# EAGLE library part LTC1983 (library spietz-library-2)
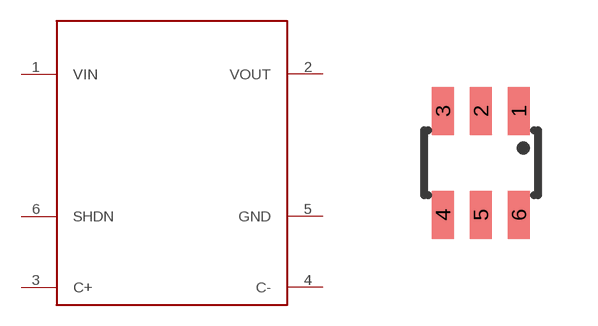
[diagram p12: symbol with the pads of SSOT23-6; footprint SSOT23-6]

Designator prefix -

## LTC1983  [SSOT23-6]
1  VIN
2  VOUT
3  C+
4  C-
5  GND
6  SHDN

## Footprint SSOT23-6 (pad centres in mm)
smd 0.55 x 1.2: 1 0.95,1.3; 2 0,1.3; 3 -0.95,1.3; 4 -0.95,-1.3; 5 0,-1.3; 6 0.95,-1.3